# Altium schematic symbol library TRANSISTOR NPN Pre-Biased.Schlib: 1 symbol
Pins are listed as number, name and electrical type; pins without a type are passive.

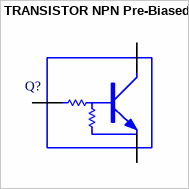
[diagram p0: symbol TRANSISTOR NPN Pre-Biased]

## TRANSISTOR NPN Pre-Biased
designator Q?
pins: 1 B, 2 C, 3 E